# Altium schematic symbol library MIC4102.SchLib: 1 symbol
Pins are listed as number, name and electrical type; pins without a type are passive.

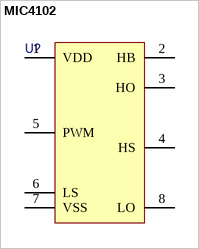
[diagram p0: symbol MIC4102]

## MIC4102
designator U?  (value not drawn)
pins: 1 VDD, 2 HB, 3 HO, 4 HS, 5 PWM, 6 LS, 7 VSS, 8 LO